# EAGLE library part AYZ0202AGRLC (library SamacSys_Parts)
AYZ0202AGRLC (Slide Switches) Source: Datasheet <https://www.ckswitches.com/media/1431/ayz.pdf>
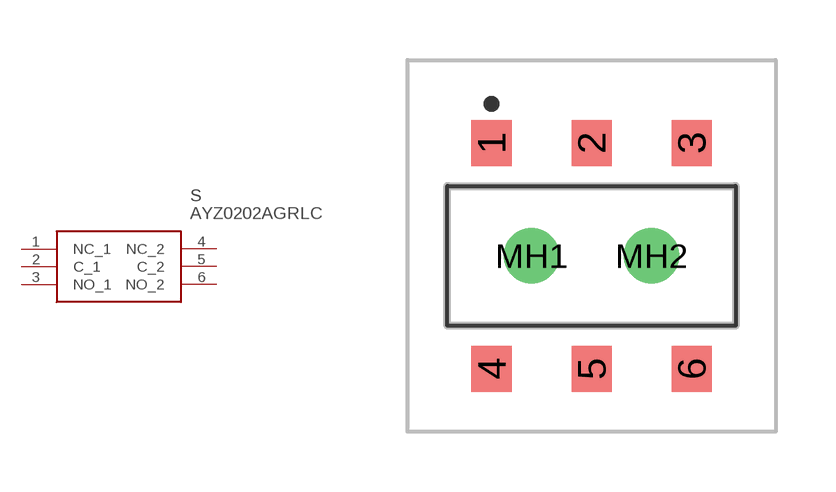
[diagram p2: symbol with the pads of AYZ0202AGRLC; footprint AYZ0202AGRLC]

Designator prefix S

## AYZ0202AGRLC (ALLIED_NUMBER: 70417470; ALLIED_PRICE-STOCK: https://www.alliedelec.com/c-k-ayz0202agrlc/70417470/; DESCRIPTION: AYZ0202AGRLC (Slide Switches); HEIGHT: mm; MANUFACTURER_NAME: C & K COMPONENTS; MANUFACTURER_PART_NUMBER: AYZ0202AGRLC; MOUSER_PART_NUMBER: 611-AYZ0202AGRLC; MOUSER_PRICE-STOCK: https://www.mouser.com/Search/Refine.aspx?Keyword=611-AYZ0202AGRLC; RS_PART_NUMBER: 7931504P; RS_PRICE-STOCK: http://uk.rs-online.com/web/p/products/7931504P)  [AYZ0202AGRLC]
1  NC_1
2  C_1
3  NO_1
4  NC_2
5  C_2
6  NO_2

## Footprint AYZ0202AGRLC (pad centres in mm)
AYZ0202AGRLC
smd 1 x 1.15: 1 -2.5,2.825; 2 0,2.825; 3 2.5,2.825; 4 -2.5,-2.825; 5 0,-2.825; 6 2.5,-2.825
drill 0.85 pad 1.381: MH1 -1.5,0; MH2 1.5,0